# EAGLE library part ATMEGA324*P (library IC - uC - AVR)
MICROCONTROLLER 32 kBytes FLASH 2 kBytes SRAM 1 kBytes EEPROM DUAL USART 8-channel 10 bit ADC
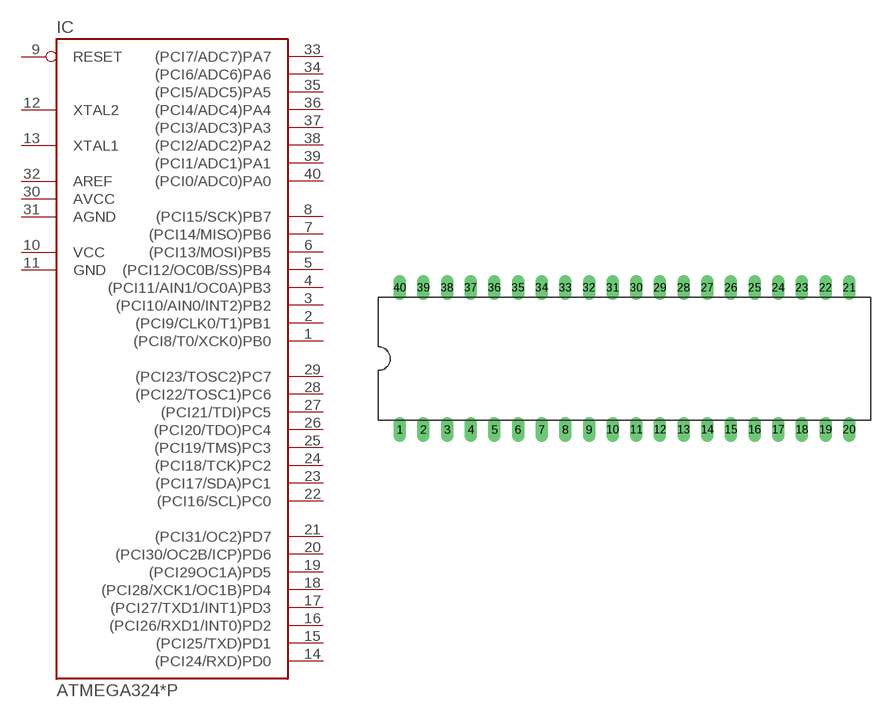
[diagram p50: symbol with the pads of DIL40; footprint DIL40]

Designator prefix IC

## ATMEGA324-20P, ATMEGA324V-10P  [DIL40]
1  (PCI8/T0/XCK0)PB0
2  (PCI9/CLK0/T1)PB1
3  (PCI10/AIN0/INT2)PB2
4  (PCI11/AIN1/OC0A)PB3
5  (PCI12/OC0B/SS)PB4
6  (PCI13/MOSI)PB5
7  (PCI14/MISO)PB6
8  (PCI15/SCK)PB7
9  RESET  in
10  VCC  pwr
11  GND  pwr
12  XTAL2
13  XTAL1
14  (PCI24/RXD)PD0
15  (PCI25/TXD)PD1
16  (PCI26/RXD1/INT0)PD2
17  (PCI27/TXD1/INT1)PD3
18  (PCI28/XCK1/OC1B)PD4
19  (PCI29OC1A)PD5
20  (PCI30/OC2B/ICP)PD6
21  (PCI31/OC2)PD7
22  (PCI16/SCL)PC0
23  (PCI17/SDA)PC1
24  (PCI18/TCK)PC2
25  (PCI19/TMS)PC3
26  (PCI20/TDO)PC4
27  (PCI21/TDI)PC5
28  (PCI22/TOSC1)PC6
29  (PCI23/TOSC2)PC7
30  AVCC  pwr
31  AGND  pwr
32  AREF  pwr
33  (PCI7/ADC7)PA7
34  (PCI6/ADC6)PA6
35  (PCI5/ADC5)PA5
36  (PCI4/ADC4)PA4
37  (PCI3/ADC3)PA3
38  (PCI2/ADC2)PA2
39  (PCI1/ADC1)PA1
40  (PCI0/ADC0)PA0

## Footprint DIL40 (pad centres in mm)
Dual In Line
drill 0.813 long: 1 -24.13,-7.62; 2 -21.59,-7.62; 3 -19.05,-7.62; 4 -16.51,-7.62; 5 -13.97,-7.62; 6 -11.43,-7.62; 7 -8.89,-7.62; 8 -6.35,-7.62; 9 -3.81,-7.62; 10 -1.27,-7.62; 11 1.27,-7.62; 12 3.81,-7.62; 13 6.35,-7.62; 14 8.89,-7.62; 15 11.43,-7.62; 16 13.97,-7.62; 17 16.51,-7.62; 18 19.05,-7.62; 19 21.59,-7.62; 20 24.13,-7.62; 21 24.13,7.62; 22 21.59,7.62; 23 19.05,7.62; 24 16.51,7.62; 25 13.97,7.62; 26 11.43,7.62; 27 8.89,7.62; 28 6.35,7.62; 29 3.81,7.62; 30 1.27,7.62; 31 -1.27,7.62; 32 -3.81,7.62; 33 -6.35,7.62; 34 -8.89,7.62; 35 -11.43,7.62; 36 -13.97,7.62; 37 -16.51,7.62; 38 -19.05,7.62; 39 -21.59,7.62; 40 -24.13,7.62